# Altium schematic symbol library Radial_8.3x8.3mm.SchLib: 1 symbol
Pins are listed as number, name and electrical type; pins without a type are passive.

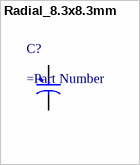
[diagram p0: symbol Radial_8.3x8.3mm]

## Radial_8.3x8.3mm
designator C?
+Description
pins: 1, 2